# EAGLE library part MC68HC*08JB8F (library Motorola_HC08)
Motorola HC08 MC68HC908JB8 microcontrollers jean-francois@frebourg.com
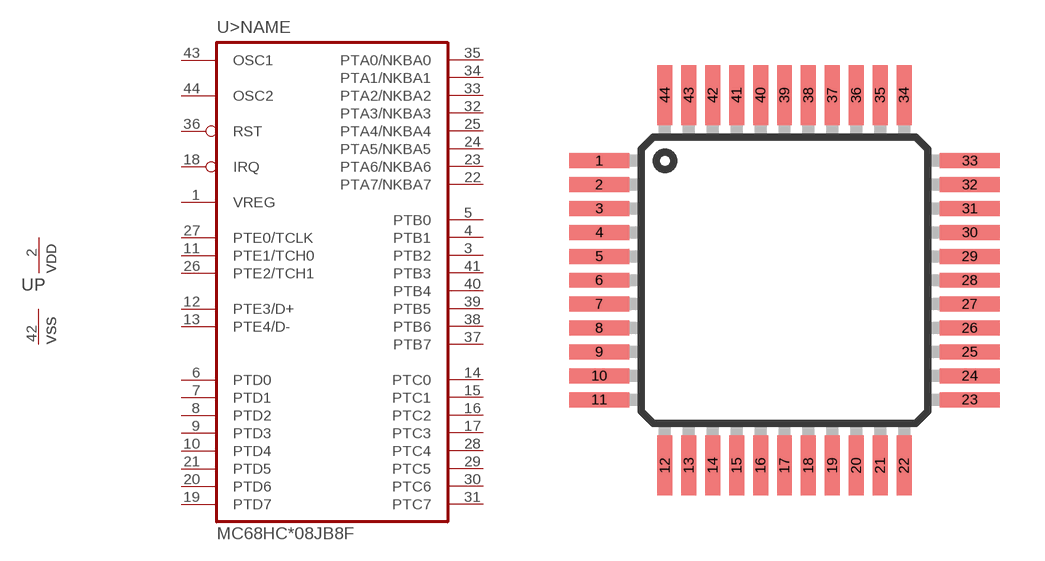
[diagram p2: symbol with the pads of PQFP44; footprint PQFP44]

Designator prefix U; gates >NAME=HC08JB_44 P=PWRN

## MC68HC08JB8FB, MC68HC908JB8FB  [PQFP44]
1  >NAME:VREG  pwr
2  P:VDD  pwr
3  >NAME:PTB2
4  >NAME:PTB1
5  >NAME:PTB0
6  >NAME:PTD0
7  >NAME:PTD1
8  >NAME:PTD2
9  >NAME:PTD3
10  >NAME:PTD4
11  >NAME:PTE1/TCH0
12  >NAME:PTE3/D+
13  >NAME:PTE4/D-
14  >NAME:PTC0
15  >NAME:PTC1
16  >NAME:PTC2
17  >NAME:PTC3
18  >NAME:IRQ  in
19  >NAME:PTD7
20  >NAME:PTD6
21  >NAME:PTD5
22  >NAME:PTA7/NKBA7
23  >NAME:PTA6/NKBA6
24  >NAME:PTA5/NKBA5
25  >NAME:PTA4/NKBA4
26  >NAME:PTE2/TCH1
27  >NAME:PTE0/TCLK
28  >NAME:PTC4
29  >NAME:PTC5
30  >NAME:PTC6
31  >NAME:PTC7
32  >NAME:PTA3/NKBA3
33  >NAME:PTA2/NKBA2
34  >NAME:PTA1/NKBA1
35  >NAME:PTA0/NKBA0
36  >NAME:RST
37  >NAME:PTB7
38  >NAME:PTB6
39  >NAME:PTB5
40  >NAME:PTB4
41  >NAME:PTB3
42  P:VSS  pwr
43  >NAME:OSC1  in
44  >NAME:OSC2  out

## Footprint PQFP44 (pad centres in mm)
Plastic Quad Flat Package
smd 2 x 0.5: 1 -6.2,4; 2 -6.2,3.2; 3 -6.2,2.4; 4 -6.2,1.6; 5 -6.2,0.8; 6 -6.2,0; 7 -6.2,-0.8; 8 -6.2,-1.6; 9 -6.2,-2.4; 10 -6.2,-3.2; 11 -6.2,-4; 23 6.2,-4; 24 6.2,-3.2; 25 6.2,-2.4; 26 6.2,-1.6; 27 6.2,-0.8; 28 6.2,0; 29 6.2,0.8; 30 6.2,1.6; 31 6.2,2.4; 32 6.2,3.2; 33 6.2,4
smd 0.5 x 2: 12 -4,-6.2; 13 -3.2,-6.2; 14 -2.4,-6.2; 15 -1.6,-6.2; 16 -0.8,-6.2; 17 0,-6.2; 18 0.8,-6.2; 19 1.6,-6.2; 20 2.4,-6.2; 21 3.2,-6.2; 22 4,-6.2; 34 4,6.2; 35 3.2,6.2; 36 2.4,6.2; 37 1.6,6.2; 38 0.8,6.2; 39 0,6.2; 40 -0.8,6.2; 41 -1.6,6.2; 42 -2.4,6.2; 43 -3.2,6.2; 44 -4,6.2